# Altium footprint library optocouplers.pcblib: 21 footprints (part 2 of 2)
Each footprint in its own frame and in the unit in brackets; x right, y up, seen from the top. Pads: shape width x height; smd on the part's side, far side on the other; paste and mask are expansions set on the pad; w line width, h text height; cw(c..) or ccw(c..) is an arc to the next point about the centre after c.
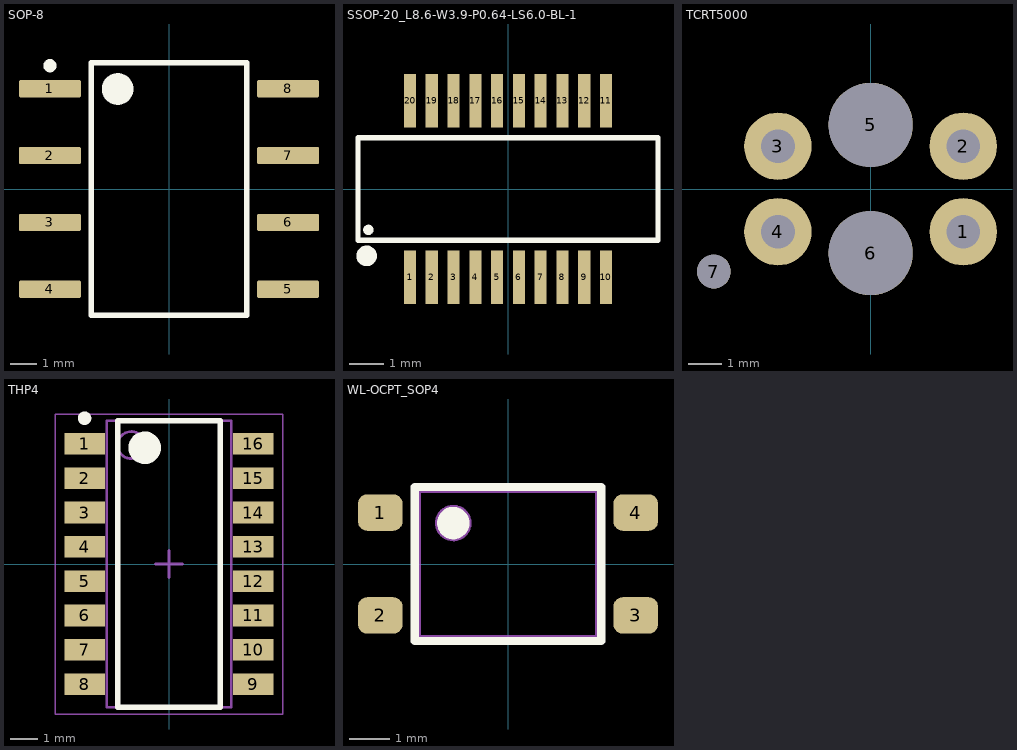
[diagram p1: the footprints below, top view; thin cyan lines are the x and y axes]

## SOP-8 [mm]
pads (8):
  rrect15% 2.35x0.65 smd: 1(-4.525,3.81) 2(-4.525,1.27) 3(-4.525,-1.27) 4(-4.525,-3.81) 5(4.525,-3.81) 6(4.525,-1.27) 7(4.525,1.27) 8(4.525,3.81)
Top Overlay:
  circle w0.6: c-1.95,3.8 r0.3
  circle w0.25: c-4.525,4.685 r0.125
  lines w0.2: -2.95,-4.8 2.95,-4.8 2.95,4.8 -2.95,4.8 -2.95,-4.8
3D body "DUB0008A.stp": height 4.85, standoff 0, extent -5.242,-4.75 5.242,4.75

## SSOP-20_L8.6-W3.9-P0.64-LS6.0-BL-1 [mil]
pads (20):
  rect 14x61.42 smd: 1(-112.5,-101.57) 2(-87.5,-101.57) 3(-62.5,-101.57) 4(-37.5,-101.57) 5(-12.5,-101.57) 6(12.5,-101.57) 7(37.5,-101.57) 8(62.5,-101.57) 9(87.5,-101.57) 10(112.5,-101.57) 11(112.5,101.57) 12(87.5,101.57) 13(62.5,101.57) 14(37.5,101.57) 15(12.5,101.57) 16(-12.5,101.57) 17(-37.5,101.57) 18(-62.5,101.57) 19(-87.5,101.57) 20(-112.5,101.57)
Top Overlay:
  circle w5.91: c-160.39,-46.96 r2.95
  circle w11.81: c-162.4,-76.77 r5.91
  lines w6: -172.29,-58.87 -172.29,58.87 172.29,58.87 172.29,-58.87 -172.29,-58.87
3D body "User Library-SSOP20.step": height 65.94, standoff 0.01, extent -170.47,-116.39 170.47,116.39

## TCRT5000 [mm]
pads (7):
  round 2 hole 1: 1(2.75,-1.27) 2(2.75,1.27) 3(-2.75,1.27) 4(-2.75,-1.27)
  round 2.5 hole 2.5 unplated: 5(0,1.9) 6(0,-1.9)
  round 1 hole 1 unplated: 7(-4.65,-2.45)
3D body "User Library-corpo TCRT 5000.step": height 2.5, standoff -8, extent -5.1,-3.3 5.1,3.5

## THP4 [mm]
height 2
pads (16):
  rect 1.5x0.8 smd: 1(-3.125,4.445) 2(-3.125,3.175) 3(-3.125,1.905) 4(-3.125,0.635) 5(-3.125,-0.635) 6(-3.125,-1.905) 7(-3.125,-3.175) 8(-3.125,-4.445) 9(3.125,-4.445) 10(3.125,-3.175) 11(3.125,-1.905) 12(3.125,-0.635) 13(3.125,0.635) 14(3.125,1.905) 15(3.125,3.175) 16(3.125,4.445)
Top Overlay:
  circle w0.6: c-0.9,4.3 r0.3
  circle w0.25: c-3.125,5.395 r0.125
  lines w0.2: -1.9,-5.3 1.9,-5.3 1.9,5.3 -1.9,5.3 -1.9,-5.3
Plata3D:
  circle w0.1: c-1.4,4.4 r0.5
  lines w0.1: -2.3,-5.3 2.3,-5.3 2.3,5.3 -2.3,5.3 -2.3,-5.3
Board3D:
  lines w0.05: -4.2,-5.55 4.2,-5.55 4.2,5.55 -4.2,5.55 -4.2,-5.55
  lines w0.1: -0.5,0 0.5,0 ; 0,-0.5 0,0.5
3D body "THP4.step": height 2, standoff 0, extent -3.374,-5.3 3.374,5.3

## WL-OCPT_SOP4 [mm] "Optocoupler Phototransistor, body 4.4x3.6mm"
height 2.1
pads (4):
  rrect50% 1.1x0.9 smd: 1(-3.15,1.27) 2(-3.15,-1.27) 3(3.15,-1.27) 4(3.15,1.27)
Top Overlay:
  circle w0.4: c-1.35,1.01 r0.2
  lines w0.2: -2.3,-1.9 2.3,-1.9 2.3,1.9 -2.3,1.9 -2.3,-1.9
Top3D:
  circle w0.1: c-1.35,1.01 r0.4
  lines w0.1: -2.2,-1.8 -2.2,1.8 2.2,1.8 2.2,-1.8 -2.2,-1.8
3D body "WL-OCPT_140356xxx.stp": height 2.1, standoff 0, extent -3.5,-1.8 3.5,1.8